# EAGLE library part TEXAS_INSTRUMENTS_SN74LVC1G58 (library Texas Instruments - SN74LVC1G58)
74LVC1G58 Low-power configurable multiple function gate Data sheet <https://assets.nexperia.com/documents/data-sheet/74LVC1G58.pdf>
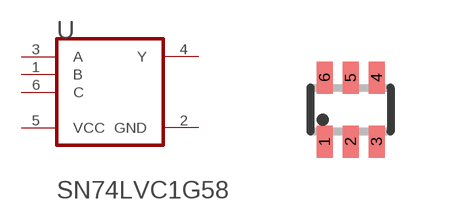
[diagram p0: symbol with the pads of SOT363_PHILIPS; footprint SOT363_PHILIPS]

Designator prefix U

## TEXAS_INSTRUMENTS_SN74LVC1G58SOT363  [SOT363_PHILIPS]
1  B  in
2  GND  pwr
3  A  in
4  Y  out
5  VCC  pwr
6  C  in

## Footprint SOT363_PHILIPS (pad centres in mm)
Small Outline Transistor; 6 leads Philips Semiconductors, SOT363.pdf
smd 0.4 x 0.8: 1 -0.65,-0.8; 2 0,-0.8; 3 0.65,-0.8; 4 0.65,0.8; 5 0,0.8; 6 -0.65,0.8